# EAGLE library part AT45DQ161 (library external_flash)
SPI Serial Flash Memory with Dual-I/O and Quad-I/O Support 16-Mbit DataFlash, 2.3V Minimum
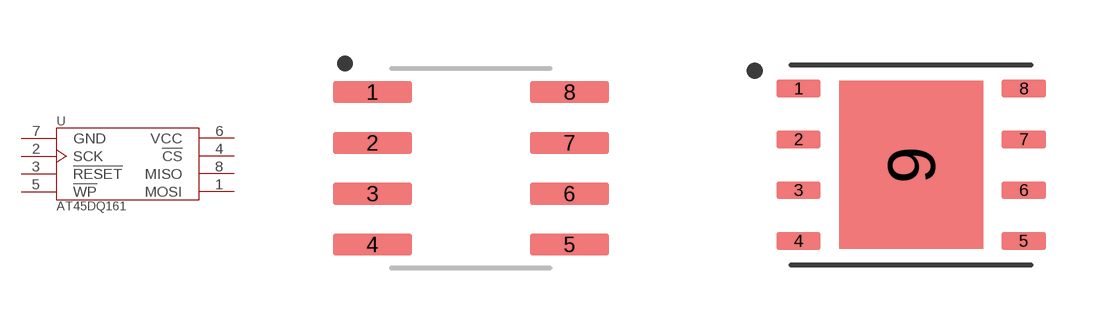
[diagram p0: symbol with the pads of SOIC-8; footprints SOIC-8, UDFN-8]

Designator prefix U

## AT45DQ161-SHF (MF: Adesto Technologies; MP: AT45DQ161-SHF-B; VALUE: AT45DQ161-SHF-B)  [SOIC-8]
1  MOSI  in
2  SCK  in
3  !RESET  in
4  !CS  in
5  !WP  in
6  VCC  pwr
7  GND  pwr
8  MISO  out

## AT45DQ161-MHF (MF: Adesto Technologies; MP: AT45DQ161-MHF-B; VALUE: AT45DQ161-MHF-B)  [UDFN-8]
1  MOSI  in
2  SCK  in
3  !RESET  in
4  !CS  in
5  !WP  in
6  VCC  pwr
7  GND  pwr
8  MISO  out
9  GND  pwr

## Footprint SOIC-8 (pad centres in mm)
smd 1.981 x 0.559: 1 -2.464,1.905; 2 -2.464,0.635; 3 -2.464,-0.635; 4 -2.464,-1.905; 5 2.464,-1.905; 6 2.464,-0.635; 7 2.464,0.635; 8 2.464,1.905

## Footprint UDFN-8 (pad centres in mm)
smd 1.1 x 0.44: 1 -2.815,1.905; 2 -2.815,0.635; 3 -2.815,-0.635; 4 -2.815,-1.905; 5 2.815,-1.905; 6 2.815,-0.635; 7 2.815,0.635; 8 2.815,1.905
smd 3.6 x 4.2: 9 0,0